# Altium schematic symbol library MOSFET,N Ch,60V,46A.Schlib: 1 symbol
Pins are listed as number, name and electrical type; pins without a type are passive.

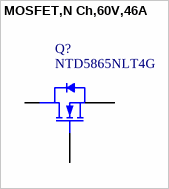
[diagram p0: symbol MOSFET,N Ch,60V,46A]

## MOSFET,N Ch,60V,46A
designator Q?, comment NTD5865NLT4G
MOSFET N-CH 60V 46A DPAK
pins: 1 G, 3 S, 4 D